# EAGLE library part LEM_LTS25_NP (library uchile_robotics_eagle_lib)
LEM LTS 25-NP Digikey: 398-1002-ND Datasheet: http://www.lem.com/docs/products/lts%2025-np.pdf
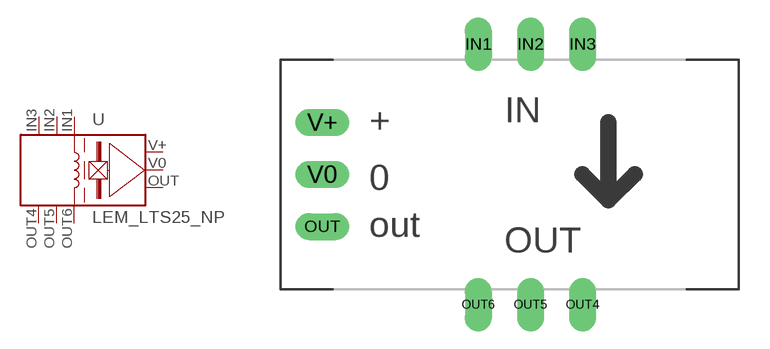
[diagram p7: symbol with the pads of LTS25_NP; footprint LTS25_NP]

Designator prefix -

## LEM_LTS25_NP  [LTS25_NP]
IN1  IN1  in
IN2  IN2  in
IN3  IN3  in
OUT  VOUT  out
OUT4  OUT4  out
OUT5  OUT5  out
OUT6  OUT6  out
V0  0V  in
V+  V+  in

## Footprint LTS25_NP (pad centres in mm)
LEM LTS 25-NP
drill 0.8 long: IN1 7.62,6.35; IN2 10.16,6.35; IN3 12.7,6.35; OUT 0,-2.54; OUT4 12.7,-6.35; OUT5 10.16,-6.35; OUT6 7.62,-6.35; V0 0,0; V+ 0,2.54